# EAGLE library part ATSAMD21G (library dadamachines)
Microchip ATSAMD21Gxx ARM Cortex-M0+ (48 pin) ...18 - 256kb Flash 32kb RAM ...17 - 128kb Flash 16kb RAM ...16 - 64kb Flash 8kb RAM ...15 - 32kb Flash 4kb RAM
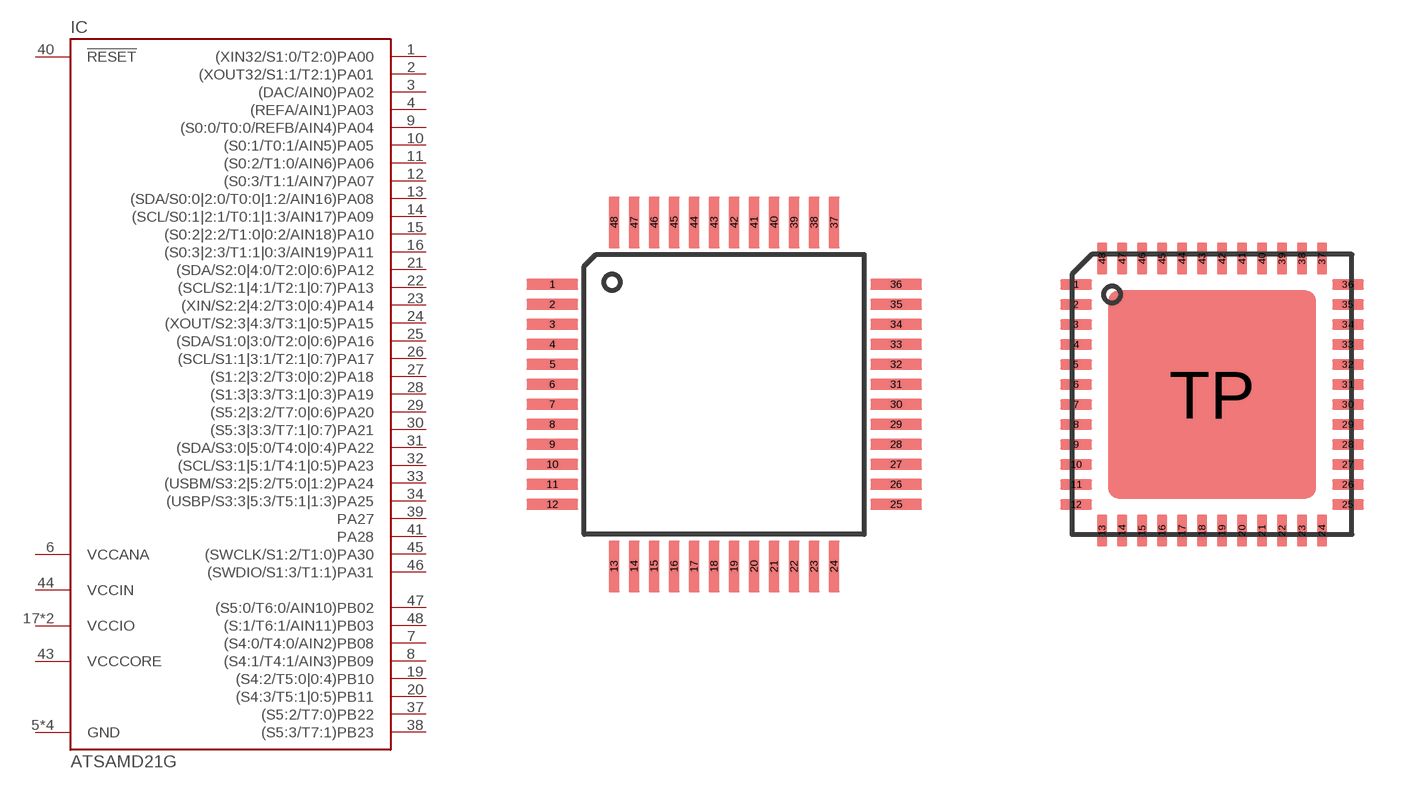
[diagram p10: symbol with the pads of TQFP48; footprints TQFP48, QFN48-PAD]

Designator prefix IC

## ATSAMD21G18A-AU  [TQFP48]
1  (XIN32/S1:0/T2:0)PA00
2  (XOUT32/S1:1/T2:1)PA01
3  (DAC/AIN0)PA02
4  (REFA/AIN1)PA03
5  GND  pwr
6  VCCANA  pwr
7  (S4:0/T4:0/AIN2)PB08
8  (S4:1/T4:1/AIN3)PB09
9  (S0:0/T0:0/REFB/AIN4)PA04
10  (S0:1/T0:1/AIN5)PA05
11  (S0:2/T1:0/AIN6)PA06
12  (S0:3/T1:1/AIN7)PA07
13  (SDA/S0:0|2:0/T0:0|1:2/AIN16)PA08
14  (SCL/S0:1|2:1/T0:1|1:3/AIN17)PA09
15  (S0:2|2:2/T1:0|0:2/AIN18)PA10
16  (S0:3|2:3/T1:1|0:3/AIN19)PA11
17  VCCIO  pwr
18  GND  pwr
19  (S4:2/T5:0|0:4)PB10
20  (S4:3/T5:1|0:5)PB11
21  (SDA/S2:0|4:0/T2:0|0:6)PA12
22  (SCL/S2:1|4:1/T2:1|0:7)PA13
23  (XIN/S2:2|4:2/T3:0|0:4)PA14
24  (XOUT/S2:3|4:3/T3:1|0:5)PA15
25  (SDA/S1:0|3:0/T2:0|0:6)PA16
26  (SCL/S1:1|3:1/T2:1|0:7)PA17
27  (S1:2|3:2/T3:0|0:2)PA18
28  (S1:3|3:3/T3:1|0:3)PA19
29  (S5:2|3:2/T7:0|0:6)PA20
30  (S5:3|3:3/T7:1|0:7)PA21
31  (SDA/S3:0|5:0/T4:0|0:4)PA22
32  (SCL/S3:1|5:1/T4:1|0:5)PA23
33  (USBM/S3:2|5:2/T5:0|1:2)PA24
34  (USBP/S3:3|5:3/T5:1|1:3)PA25
35  GND  pwr
36  VCCIO  pwr
37  (S5:2/T7:0)PB22
38  (S5:3/T7:1)PB23
39  PA27
40  !RESET  in
41  PA28
42  GND  pwr
43  VCCCORE  pwr
44  VCCIN  pwr
45  (SWCLK/S1:2/T1:0)PA30
46  (SWDIO/S1:3/T1:1)PA31
47  (S5:0/T6:0/AIN10)PB02
48  (S:1/T6:1/AIN11)PB03

## ATSAMD21G18A-MU  [QFN48-PAD]
1  (XIN32/S1:0/T2:0)PA00
2  (XOUT32/S1:1/T2:1)PA01
3  (DAC/AIN0)PA02
4  (REFA/AIN1)PA03
5  GND  pwr
6  VCCANA  pwr
7  (S4:0/T4:0/AIN2)PB08
8  (S4:1/T4:1/AIN3)PB09
9  (S0:0/T0:0/REFB/AIN4)PA04
10  (S0:1/T0:1/AIN5)PA05
11  (S0:2/T1:0/AIN6)PA06
12  (S0:3/T1:1/AIN7)PA07
13  (SDA/S0:0|2:0/T0:0|1:2/AIN16)PA08
14  (SCL/S0:1|2:1/T0:1|1:3/AIN17)PA09
15  (S0:2|2:2/T1:0|0:2/AIN18)PA10
16  (S0:3|2:3/T1:1|0:3/AIN19)PA11
17  VCCIO  pwr
18  GND  pwr
19  (S4:2/T5:0|0:4)PB10
20  (S4:3/T5:1|0:5)PB11
21  (SDA/S2:0|4:0/T2:0|0:6)PA12
22  (SCL/S2:1|4:1/T2:1|0:7)PA13
23  (XIN/S2:2|4:2/T3:0|0:4)PA14
24  (XOUT/S2:3|4:3/T3:1|0:5)PA15
25  (SDA/S1:0|3:0/T2:0|0:6)PA16
26  (SCL/S1:1|3:1/T2:1|0:7)PA17
27  (S1:2|3:2/T3:0|0:2)PA18
28  (S1:3|3:3/T3:1|0:3)PA19
29  (S5:2|3:2/T7:0|0:6)PA20
30  (S5:3|3:3/T7:1|0:7)PA21
31  (SDA/S3:0|5:0/T4:0|0:4)PA22
32  (SCL/S3:1|5:1/T4:1|0:5)PA23
33  (USBM/S3:2|5:2/T5:0|1:2)PA24
34  (USBP/S3:3|5:3/T5:1|1:3)PA25
35  GND  pwr
36  VCCIO  pwr
37  (S5:2/T7:0)PB22
38  (S5:3/T7:1)PB23
39  PA27
40  !RESET  in
41  PA28
42  GND  pwr
43  VCCCORE  pwr
44  VCCIN  pwr
45  (SWCLK/S1:2/T1:0)PA30
46  (SWDIO/S1:3/T1:1)PA31
47  (S5:0/T6:0/AIN10)PB02
48  (S:1/T6:1/AIN11)PB03
TP  GND  pwr

## Footprint TQFP48 (pad centres in mm)
smd 1.3 x 0.28: 1 -4.3,2.75; 2 -4.3,2.25; 3 -4.3,1.75; 4 -4.3,1.25; 5 -4.3,0.75; 6 -4.3,0.25; 7 -4.3,-0.25; 8 -4.3,-0.75; 9 -4.3,-1.25; 10 -4.3,-1.75; 11 -4.3,-2.25; 12 -4.3,-2.75; 25 4.3,-2.75; 26 4.3,-2.25; 27 4.3,-1.75; 28 4.3,-1.25; 29 4.3,-0.75; 30 4.3,-0.25; 31 4.3,0.25; 32 4.3,0.75; 33 4.3,1.25; 34 4.3,1.75; 35 4.3,2.25; 36 4.3,2.75
smd 0.28 x 1.3: 13 -2.75,-4.3; 14 -2.25,-4.3; 15 -1.75,-4.3; 16 -1.25,-4.3; 17 -0.75,-4.3; 18 -0.25,-4.3; 19 0.25,-4.3; 20 0.75,-4.3; 21 1.25,-4.3; 22 1.75,-4.3; 23 2.25,-4.3; 24 2.75,-4.3; 37 2.75,4.3; 38 2.25,4.3; 39 1.75,4.3; 40 1.25,4.3; 41 0.75,4.3; 42 0.25,4.3; 43 -0.25,4.3; 44 -0.75,4.3; 45 -1.25,4.3; 46 -1.75,4.3; 47 -2.25,4.3; 48 -2.75,4.3

## Footprint QFN48-PAD (pad centres in mm)
smd 0.8 x 0.26: 1 -3.4,2.75; 2 -3.4,2.25; 3 -3.4,1.75; 4 -3.4,1.25; 5 -3.4,0.75; 6 -3.4,0.25; 7 -3.4,-0.25; 8 -3.4,-0.75; 9 -3.4,-1.25; 10 -3.4,-1.75; 11 -3.4,-2.25; 12 -3.4,-2.75; 25 3.4,-2.75; 26 3.4,-2.25; 27 3.4,-1.75; 28 3.4,-1.25; 29 3.4,-0.75; 30 3.4,-0.25; 31 3.4,0.25; 32 3.4,0.75; 33 3.4,1.25; 34 3.4,1.75; 35 3.4,2.25; 36 3.4,2.75
smd 0.26 x 0.8: 13 -2.75,-3.4; 14 -2.25,-3.4; 15 -1.75,-3.4; 16 -1.25,-3.4; 17 -0.75,-3.4; 18 -0.25,-3.4; 19 0.25,-3.4; 20 0.75,-3.4; 21 1.25,-3.4; 22 1.75,-3.4; 23 2.25,-3.4; 24 2.75,-3.4; 37 2.75,3.4; 38 2.25,3.4; 39 1.75,3.4; 40 1.25,3.4; 41 0.75,3.4; 42 0.25,3.4; 43 -0.25,3.4; 44 -0.75,3.4; 45 -1.25,3.4; 46 -1.75,3.4; 47 -2.25,3.4; 48 -2.75,3.4
smd 5.2 x 5.2: TP 0,0